# Altium footprint library XDCR_KXG1201C.PcbLib: 1 footprints
Each footprint in its own frame and in the unit in brackets; x right, y up, seen from the top. Pads: shape width x height; smd on the part's side, far side on the other; paste and mask are expansions set on the pad; w line width, h text height; cw(c..) or ccw(c..) is an arc to the next point about the centre after c.
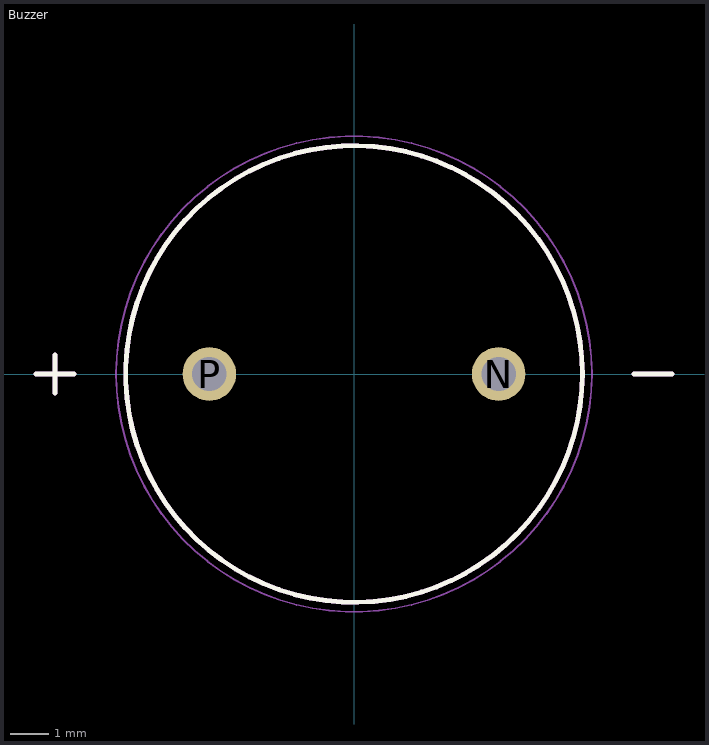
[diagram p0: the footprint, top view; thin cyan lines are the x and y axes]

## Buzzer [mm] "Buzzer"
pads (2):
  round 1.408 hole 0.9: N(3.8,0) P(-3.8,0)
Top Overlay:
  circle w0.127: c0,0 r6
  lines w0.127: -8.36,0 -7.36,0 ; -7.86,-0.5 -7.86,0.5 ; 7.36,0 8.36,0
Mechanical 13:
  circle w0.127: c0,0 r6
  lines w0.127: -8.36,0 -7.36,0 ; -7.86,-0.5 -7.86,0.5 ; 7.36,0 8.36,0
Mechanical 15:
  circle w0.05: c0,0 r6.25
3D body "step_temp.STEP": height 9.51, standoff -4.49, extent -5.989,-6 5.992,6